# EAGLE library part MAX3051 (library Other)
Maxim Integrated MAX3051 CAN Tranciever
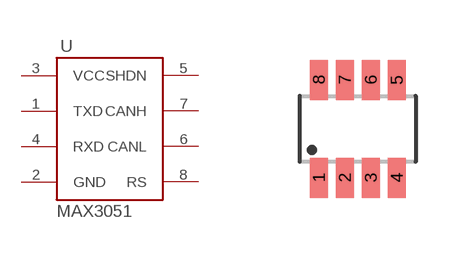
[diagram p12: symbol with the pads of SOT23-8L; footprint SOT23-8L]

Designator prefix -

## MAX3051MAX3051  [SOT23-8L]
1  TXD
2  GND
3  VCC
4  RXD
5  SHDN
6  CANL
7  CANH
8  RS

## Footprint SOT23-8L (pad centres in mm)
SC70/SOT23-8 Source: http://datasheets.maxim-ic.com/en/ds/MAX4335-MAX4338.pdf
smd 0.45 x 1: 1 -0.975,-1.225; 2 -0.325,-1.225; 3 0.325,-1.225; 4 0.975,-1.225; 5 0.975,1.225; 6 0.325,1.225; 7 -0.325,1.225; 8 -0.975,1.225